# EAGLE library part 6C6 (library wheat)
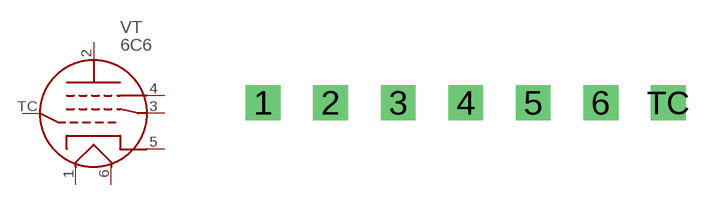
[diagram p205: symbol with the pads of PENTODE_G; footprint PENTODE_G]

Designator prefix VT

## 6C6  [PENTODE_G]
1  H1  pas
2  P  pas
3  G2  pas
4  G3  pas
5  K  pas
6  H2  pas
TC  G1  pas

## Footprint PENTODE_G (pad centres in mm)
drill 0.8 square: 1 -6.35,0; 2 -3.81,0; 3 -1.27,0; 4 1.27,0; 5 3.81,0; 6 6.35,0; TC 8.89,0